# EAGLE library part PICAXE8 (library CJ_Libz)
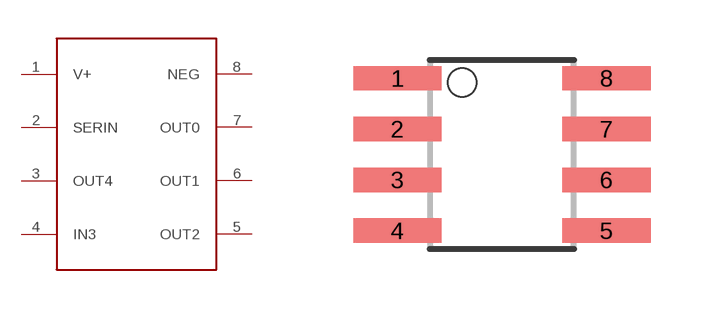
[diagram p1: symbol with the pads of SOIC-8; footprint SOIC-8]

Designator prefix -

## PICAXE8  [SOIC-8]
1  V+
2  SERIN
3  OUT4
4  IN3
5  OUT2
6  OUT1
7  OUT0
8  NEG

## Footprint SOIC-8 (pad centres in mm)
SOIC-8
smd 2.21 x 0.61: 1 -2.616,1.905; 2 -2.616,0.635; 3 -2.616,-0.635; 4 -2.616,-1.905; 5 2.616,-1.905; 6 2.616,-0.635; 7 2.616,0.635; 8 2.616,1.905